# Altium schematic symbol library MySimbols.SchLib: 2 symbols
Pins are listed as number, name and electrical type; pins without a type are passive.

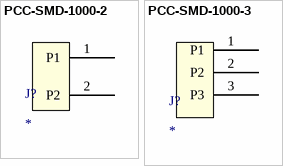
[diagram p0: symbols PCC-SMD-1000-2 to PCC-SMD-1000-3]

## PCC-SMD-1000-2
designator J?
Circuit Board Thermocouple, RTD, Thermistor Connectors For Miniature Connectors
footprint PCC-SMD-1000 (PCC-SMD-1000 Connetor)
pins: 1 P1, 2 P2

## PCC-SMD-1000-3
designator J?
Circuit Board Thermocouple, RTD, Thermistor Connectors For Miniature Connectors
footprint PCC-SMD-1000-3 (Circuit Board Thermocouple, RTD, Thermistor Connectors For Miniature Connectors)
pins: 1 P1, 2 P2, 3 P3